# EAGLE library part SM05B-SRSS-TB (library con-JST-SH)
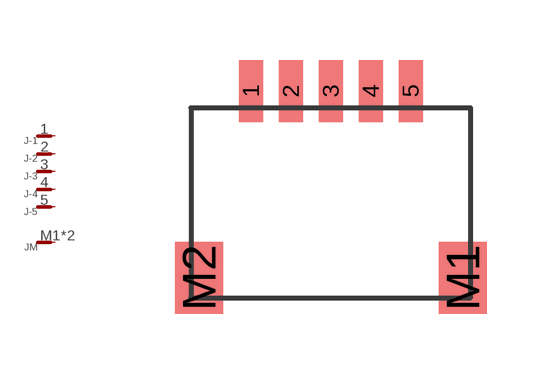
[diagram p2: symbol with the pads of SM05B-SRSS-TB; footprint SM05B-SRSS-TB]

Designator prefix J; gates -1=PIN -2=PIN -3=PIN -4=PIN -5=PIN M=PIN

## SM05B-SRSS-TB  [SM05B-SRSS-TB]
1  -1:P
2  -2:P
3  -3:P
4  -4:P
5  -5:P
M1  M:P
M2  M:P

## Footprint SM05B-SRSS-TB (pad centres in mm)
JST-SH (1.25mm) 5-pin surface-mount right-angle Wire-Board Connector
smd 0.6 x 1.55: 1 -2,4.675; 2 -1,4.675; 3 0,4.675; 4 1,4.675; 5 2,4.675
smd 1.2 x 1.8: M1 3.3,0; M2 -3.3,0